# Altium footprint library Fuse.PcbLib: 123 footprints (part 6 of 8)
Each footprint in its own frame and in the unit in brackets; x right, y up, seen from the top. Pads: shape width x height; smd on the part's side, far side on the other; paste and mask are expansions set on the pad; w line width, h text height; cw(c..) or ccw(c..) is an arc to the next point about the centre after c.
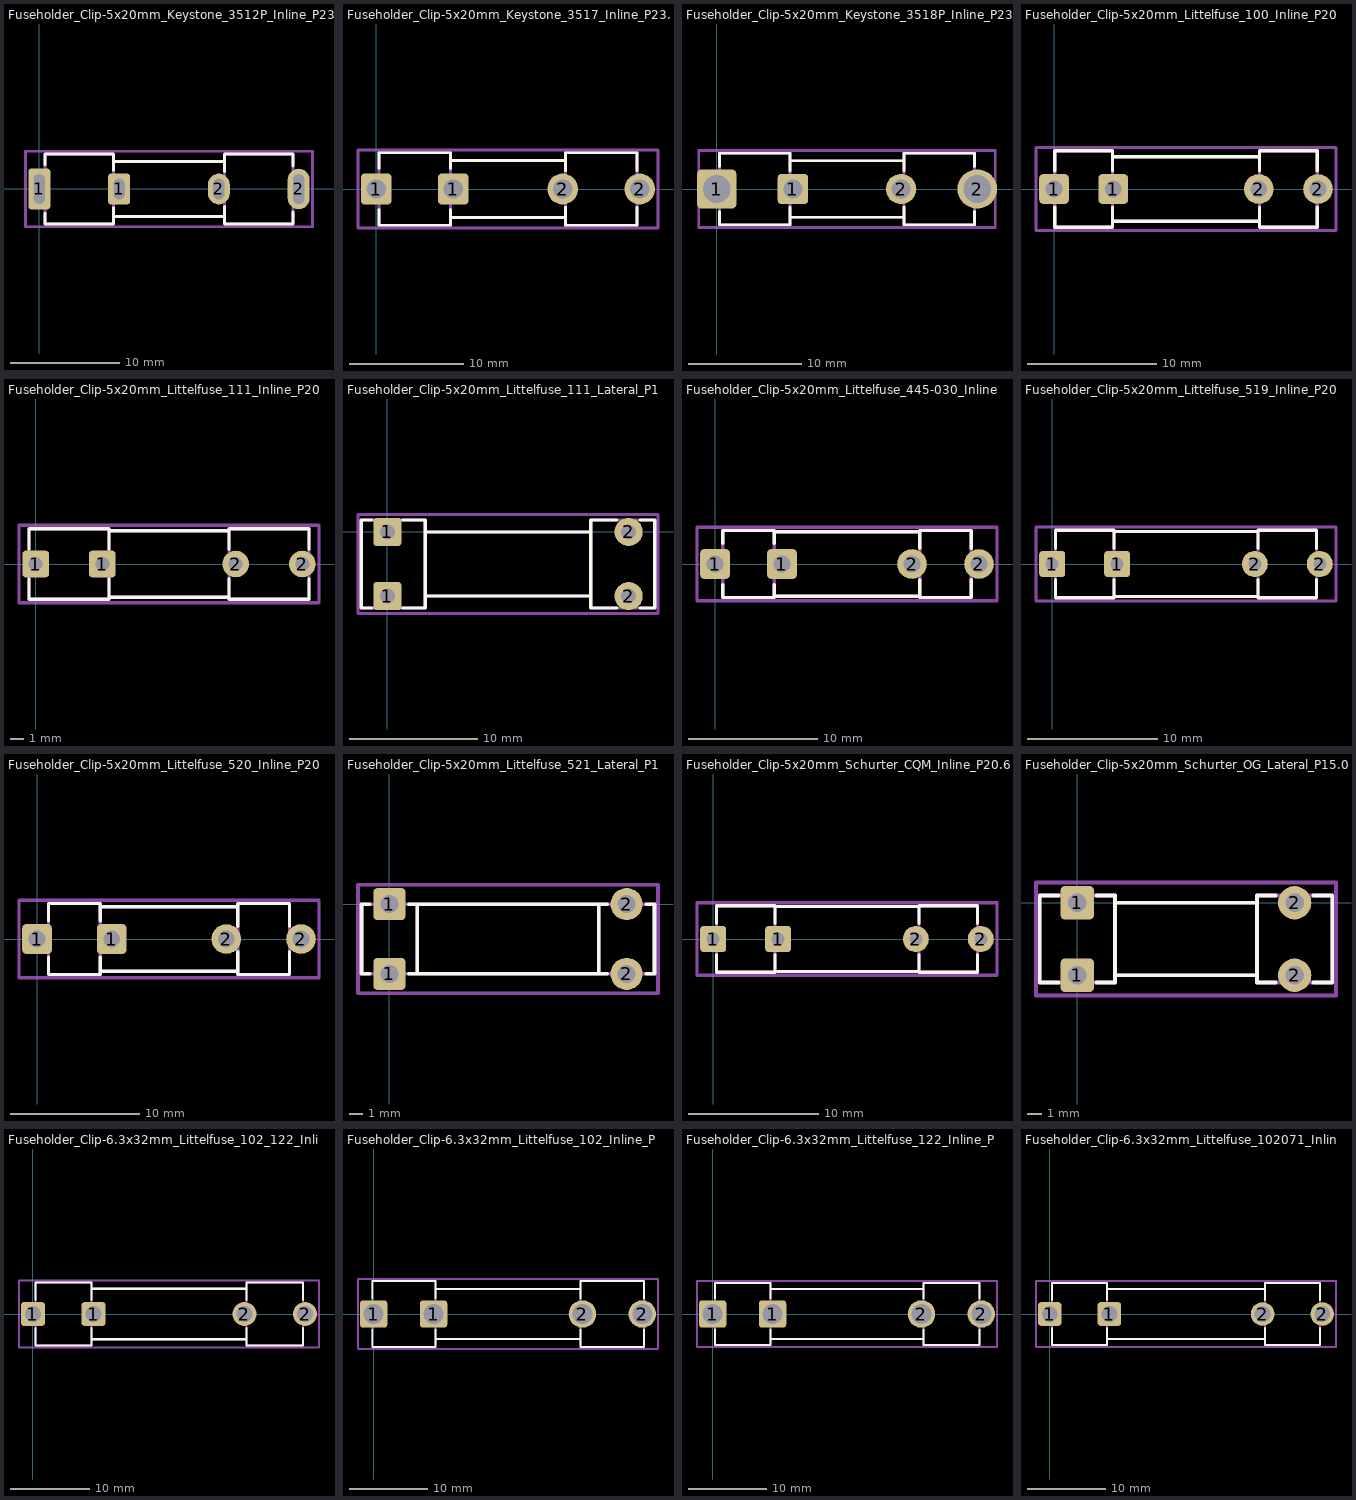
[diagram p5: the footprints below, top view; thin cyan lines are the x and y axes]

## Fuseholder_Clip-5x20mm_Keystone_3512P_Inline_P23.62x7.27mm_D1.02x2.41x1.02x1.57mm_Horizontal [mm]
pads (4):
  rrect25% 2x3.7 hole 2.71 slot 1.02 at 0 deg: 1(0,0)
  rrect25% 2x2.8 hole 1.87 slot 1.02 at 0 deg: 1(7.27,0)
  rrect100% 2x2.8 hole 1.87 slot 1.02 at 0 deg: 2(16.35,0)
  rrect100% 2x3.7 hole 2.71 slot 1.02 at 0 deg: 2(23.62,0)
F.SilkS:
  lines w0.254: 0.51,-2.2 0.51,-3.175 6.76,-3.175 6.76,-1.7 ; 0.51,2.2 0.51,3.175 6.76,3.175 6.76,1.7 ; 6.76,-2.5 16.86,-2.5 ; 6.76,2.5 16.86,2.5 ; 16.86,-1.6 16.86,-3.175 23.11,-3.175 23.11,-2.1 ; 16.86,1.6 16.86,3.175 23.11,3.175 23.11,2.1
Top Assembly:
  lines w0.254: 6.76,-2.5 16.86,-2.5 ; 6.76,2.5 16.86,2.5 ; 0.51,-3.175 6.76,-3.175 6.76,3.175 0.51,3.175 0.51,-3.175 ; 16.86,-3.175 23.11,-3.175 23.11,3.175 16.86,3.175 16.86,-3.175
  text "'.Designator'" at 7.763,-0.84 h1
Top Courtyard:
  lines w0.254: -1.25,-3.43 24.87,-3.43 24.87,3.43 -1.25,3.43 -1.25,-3.43
Top Designator:
  text ".Designator" at 4.192,-0.508 h1.52

## Fuseholder_Clip-5x20mm_Keystone_3517_Inline_P23.11x6.76mm_D1.70mm_Horizontal [mm]
pads (4):
  rrect25% 2.7x2.7 hole 1.7: 1(0,0) 1(6.76,0)
  round 2.7 hole 1.7: 2(16.35,0) 2(23.11,0)
F.SilkS:
  lines w0.254: 0.255,-1.8 0.255,-3.175 6.505,-3.175 6.505,-1.8 ; 0.255,1.8 0.255,3.175 6.505,3.175 6.505,1.8 ; 6.505,-2.5 16.605,-2.5 ; 6.505,2.5 16.605,2.5 ; 16.605,-1.6 16.605,-3.175 22.855,-3.175 22.855,-1.6 ; 16.605,1.6 16.605,3.175 22.855,3.175 22.855,1.6
Top Assembly:
  lines w0.254: 6.505,-2.5 16.605,-2.5 ; 6.505,2.5 16.605,2.5 ; 0.255,-3.175 6.505,-3.175 6.505,3.175 0.255,3.175 0.255,-3.175 ; 16.605,-3.175 22.855,-3.175 22.855,3.175 16.605,3.175 16.605,-3.175
  text "'.Designator'" at 7.508,-0.84 h1
Top Courtyard:
  lines w0.254: -1.6,-3.43 24.71,-3.43 24.71,3.43 -1.6,3.43 -1.6,-3.43
Top Designator:
  text ".Designator" at 3.937,-0.508 h1.52

## Fuseholder_Clip-5x20mm_Keystone_3518P_Inline_P23.11x6.76mm_D2.44x1.70mm_Horizontal [mm]
pads (4):
  rrect25% 3.5x3.5 hole 2.44: 1(0,0)
  rrect25% 2.7x2.7 hole 1.7: 1(6.76,0)
  round 2.7 hole 1.7: 2(16.35,0)
  round 3.5 hole 2.44: 2(23.11,0)
F.SilkS:
  lines w0.254: 0.255,-2 0.255,-3.175 6.505,-3.175 6.505,-1.6 ; 0.255,2 0.255,3.175 6.505,3.175 6.505,1.6 ; 6.505,-2.5 16.605,-2.5 ; 6.505,2.5 16.605,2.5 ; 16.605,-1.6 16.605,-3.175 22.855,-3.175 22.855,-2 ; 16.605,1.6 16.605,3.175 22.855,3.175 22.855,2
Top Assembly:
  lines w0.254: 6.505,-2.5 16.605,-2.5 ; 6.505,2.5 16.605,2.5 ; 0.255,-3.175 6.505,-3.175 6.505,3.175 0.255,3.175 0.255,-3.175 ; 16.605,-3.175 22.855,-3.175 22.855,3.175 16.605,3.175 16.605,-3.175
  text "'.Designator'" at 7.508,-0.84 h1
Top Courtyard:
  lines w0.254: -1.6,-3.43 24.71,-3.43 24.71,3.43 -1.6,3.43 -1.6,-3.43
Top Designator:
  text ".Designator" at 3.937,-0.508 h1.52

## Fuseholder_Clip-5x20mm_Littelfuse_100_Inline_P20.50x4.60mm_D1.30mm_Horizontal [mm]
pads (4):
  rrect25% 2.3x2.3 hole 1.3: 1(0,0) 1(4.6,0)
  round 2.3 hole 1.3: 2(15.9,0) 2(20.5,0)
F.SilkS:
  lines w0.254: 0.05,-1.4 0.05,-2.97 4.55,-2.97 4.55,-1.4 ; 0.05,1.4 0.05,2.97 4.55,2.97 4.55,1.4 ; 4.55,-2.5 15.95,-2.5 ; 4.55,2.5 15.95,2.5 ; 15.95,-1.4 15.95,-2.97 20.45,-2.97 20.45,-1.4 ; 15.95,1.4 15.95,2.97 20.45,2.97 20.45,1.4
Top Assembly:
  lines w0.254: 4.55,-2.5 15.95,-2.5 ; 4.55,2.5 15.95,2.5 ; 0.05,-2.97 4.55,-2.97 4.55,2.97 0.05,2.97 0.05,-2.97 ; 15.95,-2.97 20.45,-2.97 20.45,2.97 15.95,2.97 15.95,-2.97
  text "'.Designator'" at 6.203,-0.84 h1
Top Courtyard:
  lines w0.254: -1.4,-3.22 21.9,-3.22 21.9,3.22 -1.4,3.22 -1.4,-3.22
Top Designator:
  text ".Designator" at 2.632,-0.508 h1.52

## Fuseholder_Clip-5x20mm_Littelfuse_111_Inline_P20.00x5.00mm_D1.05mm_Horizontal [mm]
pads (4):
  rrect25% 2x2 hole 1.05: 1(0,0) 1(5,0)
  round 2 hole 1.05: 2(15,0) 2(20,0)
F.SilkS:
  lines w0.254: -0.5,-1.1 -0.5,-2.65 5.5,-2.65 5.5,-1.1 ; -0.5,1.1 -0.5,2.65 5.5,2.65 5.5,1.1 ; 5.5,-2.5 14.5,-2.5 ; 5.5,2.5 14.5,2.5 ; 14.5,-1.1 14.5,-2.65 20.5,-2.65 20.5,-1.1 ; 14.5,1.1 14.5,2.65 20.5,2.65 20.5,1.1
Top Assembly:
  lines w0.254: 5.5,-2.5 14.5,-2.5 ; 5.5,2.5 14.5,2.5 ; -0.5,-2.65 5.5,-2.65 5.5,2.65 -0.5,2.65 -0.5,-2.65 ; 14.5,-2.65 20.5,-2.65 20.5,2.65 14.5,2.65 14.5,-2.65
  text "'.Designator'" at 5.953,-0.84 h1
Top Courtyard:
  lines w0.254: -1.25,-2.9 21.25,-2.9 21.25,2.9 -1.25,2.9 -1.25,-2.9
Top Designator:
  text ".Designator" at 2.382,-0.508 h1.52

## Fuseholder_Clip-5x20mm_Littelfuse_111_Lateral_P18.80x5.00mm_D1.17mm_Horizontal [mm]
pads (4):
  rrect25% 2.2x2.2 hole 1.17: 1(0,-5) 1(0,0)
  round 2.2 hole 1.17: 2(18.8,-5) 2(18.8,0)
F.SilkS:
  lines w0.254: -1.2,-5.93 -2.04,-5.93 -2.04,0.93 -1.2,0.93 ; 1.2,-5.93 2.96,-5.93 2.96,0.93 1.2,0.93 ; 2.96,-5 15.84,-5 ; 2.96,0 15.84,0 ; 17.9,-5.93 15.84,-5.93 15.84,0.93 17.9,0.93 ; 19.7,-5.93 20.84,-5.93 20.84,0.93 19.7,0.93
Top Assembly:
  lines w0.254: 2.96,-5 15.84,-5 ; 2.96,0 15.84,0 ; -2.04,-5.93 2.96,-5.93 2.96,0.93 -2.04,0.93 -2.04,-5.93 ; 15.84,-5.93 20.84,-5.93 20.84,0.93 15.84,0.93 15.84,-5.93
  text "'.Designator'" at 5.353,-3.34 h1
Top Courtyard:
  lines w0.254: -2.29,-6.35 21.09,-6.35 21.09,1.35 -2.29,1.35 -2.29,-6.35
Top Designator:
  text ".Designator" at 1.782,-3.008 h1.52

## Fuseholder_Clip-5x20mm_Littelfuse_445-030_Inline_P20.50x5.20mm_D1.30mm_Horizontal [mm]
pads (4):
  rrect25% 2.3x2.3 hole 1.3: 1(0,0) 1(5.2,0)
  round 2.3 hole 1.3: 2(15.3,0) 2(20.5,0)
F.SilkS:
  lines w0.254: 0.6,-1.6 0.6,-2.6 4.6,-2.6 4.6,-1.6 ; 0.6,1.6 0.6,2.6 4.6,2.6 4.6,1.6 ; 4.6,-2.5 15.9,-2.5 ; 4.6,2.5 15.9,2.5 ; 15.9,-1.2 15.9,-2.6 19.9,-2.6 19.9,-1.2 ; 15.9,1.2 15.9,2.6 19.9,2.6 19.9,1.2
Top Assembly:
  lines w0.254: 4.6,-2.5 15.9,-2.5 ; 4.6,2.5 15.9,2.5 ; 0.6,-2.6 4.6,-2.6 4.6,2.6 0.6,2.6 0.6,-2.6 ; 15.9,-2.6 19.9,-2.6 19.9,2.6 15.9,2.6 15.9,-2.6
  text "'.Designator'" at 6.203,-0.84 h1
Top Courtyard:
  lines w0.254: -1.4,-2.85 21.9,-2.85 21.9,2.85 -1.4,2.85 -1.4,-2.85
Top Designator:
  text ".Designator" at 2.632,-0.508 h1.52

## Fuseholder_Clip-5x20mm_Littelfuse_519_Inline_P20.60x5.00mm_D1.00mm_Horizontal [mm]
pads (4):
  rrect25% 2x2 hole 1: 1(0,0) 1(5,0)
  round 2 hole 1: 2(15.6,0) 2(20.6,0)
F.SilkS:
  lines w0.254: 0.25,-1.2 0.25,-2.6 4.75,-2.6 4.75,-1.2 ; 0.25,1.2 0.25,2.6 4.75,2.6 4.75,1.2 ; 4.75,-2.5 15.85,-2.5 ; 4.75,2.5 15.85,2.5 ; 15.85,-1.2 15.85,-2.6 20.35,-2.6 20.35,-1.2 ; 15.85,1.2 15.85,2.6 20.35,2.6 20.35,1.2
Top Assembly:
  lines w0.254: 4.75,-2.5 15.85,-2.5 ; 4.75,2.5 15.85,2.5 ; 0.25,-2.6 4.75,-2.6 4.75,2.6 0.25,2.6 0.25,-2.6 ; 15.85,-2.6 20.35,-2.6 20.35,2.6 15.85,2.6 15.85,-2.6
  text "'.Designator'" at 6.253,-0.84 h1
Top Courtyard:
  lines w0.254: -1.25,-2.85 21.85,-2.85 21.85,2.85 -1.25,2.85 -1.25,-2.85
Top Designator:
  text ".Designator" at 2.682,-0.508 h1.52

## Fuseholder_Clip-5x20mm_Littelfuse_520_Inline_P20.50x5.80mm_D1.30mm_Horizontal [mm]
pads (4):
  rrect25% 2.3x2.3 hole 1.3: 1(0,0) 1(5.8,0)
  round 2.3 hole 1.3: 2(14.7,0) 2(20.5,0)
F.SilkS:
  lines w0.254: 0.9,-1.4 0.9,-2.75 4.9,-2.75 4.9,-1.4 ; 0.9,1.4 0.9,2.75 4.9,2.75 4.9,1.4 ; 4.9,-2.5 15.6,-2.5 ; 4.9,2.5 15.6,2.5 ; 15.6,-1 15.6,-2.75 19.6,-2.75 19.6,-1 ; 15.6,1 15.6,2.75 19.6,2.75 19.6,1
Top Assembly:
  lines w0.254: 4.9,-2.5 15.6,-2.5 ; 4.9,2.5 15.6,2.5 ; 0.9,-2.75 4.9,-2.75 4.9,2.75 0.9,2.75 0.9,-2.75 ; 15.6,-2.75 19.6,-2.75 19.6,2.75 15.6,2.75 15.6,-2.75
  text "'.Designator'" at 6.203,-0.84 h1
Top Courtyard:
  lines w0.254: -1.4,-3 21.9,-3 21.9,3 -1.4,3 -1.4,-3
Top Designator:
  text ".Designator" at 2.632,-0.508 h1.52

## Fuseholder_Clip-5x20mm_Littelfuse_521_Lateral_P17.00x5.00mm_D1.30mm_Horizontal [mm]
pads (4):
  rrect25% 2.3x2.3 hole 1.3: 1(0,-5) 1(0,0)
  round 2.3 hole 1.3: 2(17,-5) 2(17,0)
F.SilkS:
  lines w0.254: -1.4,-5 -2,-5 -2,0 -1.4,0 ; 1.4,-5 15.6,-5 ; 1.4,0 15.6,0 ; 2,-5 2,0 ; 15,-5 15,0 ; 18.4,-5 19,-5 19,0 18.4,0
Top Assembly:
  lines w0.254: 2,-5 2,0 ; 15,-5 15,0 ; -2,-5 19,-5 19,0 -2,0 -2,-5
  text "'.Designator'" at 4.453,-3.34 h1
Top Courtyard:
  lines w0.254: -2.25,-6.4 19.25,-6.4 19.25,1.4 -2.25,1.4 -2.25,-6.4
Top Designator:
  text ".Designator" at 0.882,-3.008 h1.52

## Fuseholder_Clip-5x20mm_Schurter_CQM_Inline_P20.60x5.00mm_D1.00mm_Horizontal [mm]
pads (4):
  rrect25% 2x2 hole 1: 1(0,0) 1(5,0)
  round 2 hole 1: 2(15.6,0) 2(20.6,0)
F.SilkS:
  lines w0.254: 0.25,-1.2 0.25,-2.55 4.75,-2.55 4.75,-1.2 ; 0.25,1.2 0.25,2.55 4.75,2.55 4.75,1.2 ; 4.75,-2.5 15.85,-2.5 ; 4.75,2.5 15.85,2.5 ; 15.85,-1.2 15.85,-2.55 20.35,-2.55 20.35,-1.2 ; 15.85,1.2 15.85,2.55 20.35,2.55 20.35,1.2
Top Assembly:
  lines w0.254: 4.75,-2.5 15.85,-2.5 ; 4.75,2.5 15.85,2.5 ; 0.25,-2.55 4.75,-2.55 4.75,2.55 0.25,2.55 0.25,-2.55 ; 15.85,-2.55 20.35,-2.55 20.35,2.55 15.85,2.55 15.85,-2.55
  text "'.Designator'" at 6.253,-0.84 h1
Top Courtyard:
  lines w0.254: -1.25,-2.8 21.85,-2.8 21.85,2.8 -1.25,2.8 -1.25,-2.8
Top Designator:
  text ".Designator" at 2.682,-0.508 h1.52

## Fuseholder_Clip-5x20mm_Schurter_OG_Lateral_P15.00x5.00mm_D1.3mm_Horizontal [mm]
pads (4):
  rrect25% 2.3x2.3 hole 1.3: 1(0,-5) 1(0,0)
  round 2.3 hole 1.3: 2(15,-5) 2(15,0)
F.SilkS:
  lines w0.254: -1.3,-5.5 -2.6,-5.5 -2.6,0.5 -1.3,0.5 ; 1.3,-5.5 2.6,-5.5 2.6,0.5 1.3,0.5 ; 2.6,-5 12.4,-5 ; 2.6,0 12.4,0 ; 13.7,-5.5 12.4,-5.5 12.4,0.5 13.7,0.5 ; 16.3,-5.5 17.6,-5.5 17.6,0.5 16.3,0.5
Top Assembly:
  lines w0.254: 2.6,-5 12.4,-5 ; 2.6,0 12.4,0 ; -2.6,-5.5 2.6,-5.5 2.6,0.5 -2.6,0.5 -2.6,-5.5 ; 12.4,-5.5 17.6,-5.5 17.6,0.5 12.4,0.5 12.4,-5.5
  text "'.Designator'" at 3.453,-3.34 h1
Top Courtyard:
  lines w0.254: -2.85,-6.4 17.85,-6.4 17.85,1.4 -2.85,1.4 -2.85,-6.4
Top Designator:
  text ".Designator" at -0.118,-3.008 h1.52

## Fuseholder_Clip-6.3x32mm_Littelfuse_102_122_Inline_P34.21x7.62mm_D1.98mm_Horizontal [mm]
pads (4):
  rrect25% 3x3 hole 1.98: 1(0,0) 1(7.62,0)
  round 3 hole 1.98: 2(26.59,0) 2(34.21,0)
F.SilkS:
  lines w0.254: 0.3,-1.75 0.3,-3.935 7.365,-3.935 7.365,-1.75 ; 0.3,1.75 0.3,3.935 7.365,3.935 7.365,1.75 ; 7.365,-3.175 26.845,-3.175 ; 7.365,3.175 26.845,3.175 ; 26.845,-1.75 26.845,-3.935 33.955,-3.935 33.955,-1.75 ; 26.845,1.75 26.845,3.935 33.955,3.935 33.955,1.75
Top Assembly:
  lines w0.254: 7.365,-3.175 26.845,-3.175 ; 7.365,3.175 26.845,3.175 ; 0.3,-3.935 7.365,-3.935 7.365,3.935 0.3,3.935 0.3,-3.935 ; 26.845,-3.935 33.955,-3.935 33.955,3.935 26.845,3.935 26.845,-3.935
  text "'.Designator'" at 13.053,-0.84 h1
Top Courtyard:
  lines w0.254: -1.75,-4.19 35.96,-4.19 35.96,4.19 -1.75,4.19 -1.75,-4.19
Top Designator:
  text ".Designator" at 9.487,-0.508 h1.52

## Fuseholder_Clip-6.3x32mm_Littelfuse_102_Inline_P34.21x7.62mm_D2.54mm_Horizontal [mm]
pads (4):
  rrect25% 3.5x3.5 hole 2.54: 1(0,0) 1(7.62,0)
  round 3.5 hole 2.54: 2(26.59,0) 2(34.21,0)
F.SilkS:
  lines w0.254: -0.185,-2 -0.185,-4.19 7.85,-4.19 7.85,-2 ; -0.185,2 -0.185,4.19 7.85,4.19 7.85,2 ; 7.85,-3.175 26.36,-3.175 ; 7.85,3.175 26.36,3.175 ; 26.36,-2 26.36,-4.19 34.44,-4.19 34.44,-2 ; 26.36,2 26.36,4.19 34.44,4.19 34.44,2
Top Assembly:
  lines w0.254: 7.85,-3.175 26.36,-3.175 ; 7.85,3.175 26.36,3.175 ; -0.185,-4.19 7.85,-4.19 7.85,4.19 -0.185,4.19 -0.185,-4.19 ; 26.36,-4.19 34.44,-4.19 34.44,4.19 26.36,4.19 26.36,-4.19
  text "'.Designator'" at 13.053,-0.84 h1
Top Courtyard:
  lines w0.254: -2,-4.44 36.21,-4.44 36.21,4.44 -2,4.44 -2,-4.44
Top Designator:
  text ".Designator" at 9.487,-0.508 h1.52

## Fuseholder_Clip-6.3x32mm_Littelfuse_122_Inline_P34.21x7.62mm_D2.54mm_Horizontal [mm]
pads (4):
  rrect25% 3.5x3.5 hole 2.54: 1(0,0) 1(7.62,0)
  round 3.5 hole 2.54: 2(26.59,0) 2(34.21,0)
F.SilkS:
  lines w0.254: 0.3,-2 0.3,-3.935 7.365,-3.935 7.365,-2 ; 0.3,2 0.3,3.935 7.365,3.935 7.365,2 ; 7.365,-3.175 26.845,-3.175 ; 7.365,3.175 26.845,3.175 ; 26.845,-2 26.845,-3.935 33.955,-3.935 33.955,-2 ; 26.845,2 26.845,3.935 33.955,3.935 33.955,2
Top Assembly:
  lines w0.254: 7.365,-3.175 26.845,-3.175 ; 7.365,3.175 26.845,3.175 ; 0.3,-3.935 7.365,-3.935 7.365,3.935 0.3,3.935 0.3,-3.935 ; 26.845,-3.935 33.955,-3.935 33.955,3.935 26.845,3.935 26.845,-3.935
  text "'.Designator'" at 13.053,-0.84 h1
Top Courtyard:
  lines w0.254: -2,-4.19 36.21,-4.19 36.21,4.19 -2,4.19 -2,-4.19
Top Designator:
  text ".Designator" at 9.487,-0.508 h1.52

## Fuseholder_Clip-6.3x32mm_Littelfuse_102071_Inline_P34.70x7.60mm_D2.00mm_Horizontal [mm]
pads (4):
  rrect25% 3x3 hole 2: 1(0,0) 1(7.6,0)
  round 3 hole 2: 2(27.1,0) 2(34.7,0)
F.SilkS:
  lines w0.254: 0.3,-1.765 0.3,-3.95 7.3,-3.95 7.3,-1.765 ; 0.3,1.765 0.3,3.95 7.3,3.95 7.3,1.765 ; 7.3,-3.175 27.4,-3.175 ; 7.3,3.175 27.4,3.175 ; 27.4,-1.765 27.4,-3.95 34.4,-3.95 34.4,-1.765 ; 27.4,1.765 27.4,3.95 34.4,3.95 34.4,1.765
Top Assembly:
  lines w0.254: 7.3,-3.175 27.4,-3.175 ; 7.3,3.175 27.4,3.175 ; 0.3,-3.95 7.3,-3.95 7.3,3.95 0.3,3.95 0.3,-3.95 ; 27.4,-3.95 34.4,-3.95 34.4,3.95 27.4,3.95 27.4,-3.95
  text "'.Designator'" at 13.053,-0.84 h1
Top Courtyard:
  lines w0.254: -1.75,-4.21 36.45,-4.21 36.45,4.21 -1.75,4.21 -1.75,-4.21
Top Designator:
  text ".Designator" at 9.732,-0.508 h1.52